# Altium footprint library XPSM82866AA0SRDJR.PcbLib: 2 footprints
Each footprint in its own frame and in the unit in brackets; x right, y up, seen from the top. Pads: shape width x height; smd on the part's side, far side on the other; paste and mask are expansions set on the pad; w line width, h text height; cw(c..) or ccw(c..) is an arc to the next point about the centre after c.
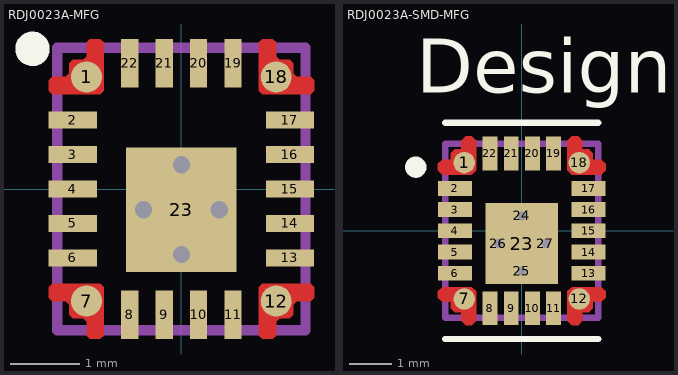
[diagram p0: the footprints below, top view; thin cyan lines are the x and y axes]

## RDJ0023A-MFG [mm]
pads (23):
  round 0.45 smd paste+0 mask+0: 1(-1.375,1.625) 7(-1.375,-1.625) 12(1.375,-1.625) 18(1.375,1.625)
  rect 0.7x0.25 smd paste+0 mask+0: 2(-1.575,1) 3(-1.575,0.5) 4(-1.575,0) 5(-1.575,-0.5) 6(-1.575,-1) 13(1.575,-1) 14(1.575,-0.5) 15(1.575,0) 16(1.575,0.5) 17(1.575,1)
  rect 0.25x0.7 smd paste+0 mask+0: 8(-0.75,-1.825) 9(-0.25,-1.825) 10(0.25,-1.825) 11(0.75,-1.825) 19(0.75,1.825) 20(0.25,1.825) 21(-0.25,1.825) 22(-0.75,1.825)
  rect 1.6x1.8 smd paste-0.887 mask+0: 23(0,-0.3)
via -0.549,-0.3 diameter 0.5 hole 0.25
via 0.551,-0.301 diameter 0.5 hole 0.25
via 0,-0.95 diameter 0.5 hole 0.25
via 0,0.35 diameter 0.5 hole 0.25
Top Layer:
  region: -1.925,1.425 -1.925,1.575 -1.875,1.625 -1.675,1.625 -1.625,1.675 -1.625,1.825 -1.575,1.875 -1.425,1.875 -1.375,1.925 -1.375,2.125 -1.325,2.175 -1.175,2.175 -1.125,2.125 -1.125,1.425 -1.175,1.375 -1.875,1.375
  region: -1.925,-1.425 -1.925,-1.575 -1.875,-1.625 -1.675,-1.625 -1.625,-1.675 -1.625,-1.825 -1.575,-1.875 -1.425,-1.875 -1.375,-1.925 -1.375,-2.125 -1.325,-2.175 -1.175,-2.175 -1.125,-2.125 -1.125,-1.425 -1.175,-1.375 -1.875,-1.375
  region: 1.925,-1.425 1.925,-1.575 1.875,-1.625 1.675,-1.625 1.625,-1.675 1.625,-1.825 1.575,-1.875 1.425,-1.875 1.375,-1.925 1.375,-2.125 1.325,-2.175 1.175,-2.175 1.125,-2.125 1.125,-1.425 1.175,-1.375 1.875,-1.375
  region: 1.925,1.425 1.925,1.575 1.875,1.625 1.675,1.625 1.625,1.675 1.625,1.825 1.575,1.875 1.425,1.875 1.375,1.925 1.375,2.125 1.325,2.175 1.175,2.175 1.125,2.125 1.125,1.425 1.175,1.375 1.875,1.375
Top Overlay:
  circle w0.25: c-2.159,2.032 r0.125
Top Paste:
  region: -1.925,1.425 -1.925,1.575 -1.875,1.625 -1.675,1.625 -1.625,1.675 -1.625,1.825 -1.575,1.875 -1.425,1.875 -1.375,1.925 -1.375,2.125 -1.325,2.175 -1.175,2.175 -1.125,2.125 -1.125,1.425 -1.175,1.375 -1.875,1.375
  region: -1.875,-1.625 -1.925,-1.575 -1.925,-1.425 -1.875,-1.375 -1.175,-1.375 -1.125,-1.425 -1.125,-2.125 -1.175,-2.175 -1.325,-2.175 -1.375,-2.125 -1.375,-1.925 -1.425,-1.875 -1.575,-1.875 -1.625,-1.825 -1.625,-1.675 -1.675,-1.625
  region: 1.925,-1.425 1.925,-1.575 1.875,-1.625 1.675,-1.625 1.625,-1.675 1.625,-1.825 1.575,-1.875 1.425,-1.875 1.375,-1.925 1.375,-2.125 1.325,-2.175 1.175,-2.175 1.125,-2.125 1.125,-1.425 1.175,-1.375 1.875,-1.375
  region: 1.875,1.625 1.925,1.575 1.925,1.425 1.875,1.375 1.175,1.375 1.125,1.425 1.125,2.125 1.175,2.175 1.325,2.175 1.375,2.125 1.375,1.925 1.425,1.875 1.575,1.875 1.625,1.825 1.625,1.675 1.675,1.625
  region: -0.735,0.465 -0.685,0.515 0.685,0.515 0.735,0.465 0.735,-1.065 0.685,-1.115 -0.685,-1.115 -0.735,-1.065
Top Solder:
  region: -1.925,1.425 -1.925,1.575 -1.875,1.625 -1.675,1.625 -1.625,1.675 -1.625,1.825 -1.575,1.875 -1.425,1.875 -1.375,1.925 -1.375,2.125 -1.325,2.175 -1.175,2.175 -1.125,2.125 -1.125,1.425 -1.175,1.375 -1.875,1.375
  region: -1.875,-1.625 -1.925,-1.575 -1.925,-1.425 -1.875,-1.375 -1.175,-1.375 -1.125,-1.425 -1.125,-2.125 -1.175,-2.175 -1.325,-2.175 -1.375,-2.125 -1.375,-1.925 -1.425,-1.875 -1.575,-1.875 -1.625,-1.825 -1.625,-1.675 -1.675,-1.625
  region: 1.925,-1.425 1.925,-1.575 1.875,-1.625 1.675,-1.625 1.625,-1.675 1.625,-1.825 1.575,-1.875 1.425,-1.875 1.375,-1.925 1.375,-2.125 1.325,-2.175 1.175,-2.175 1.125,-2.125 1.125,-1.425 1.175,-1.375 1.875,-1.375
  region: 1.875,1.625 1.925,1.575 1.925,1.425 1.875,1.375 1.175,1.375 1.125,1.425 1.125,2.125 1.175,2.175 1.325,2.175 1.375,2.125 1.375,1.925 1.425,1.875 1.575,1.875 1.625,1.825 1.625,1.675 1.675,1.625
Mechanical 13:
  lines w0.15: -1.8,-2.05 1.8,-2.05 1.8,2.05 -1.8,2.05 -1.8,-2.05
3D body "RDJ0023A.stp": height 1.45, standoff 0, extent -1.75,-2 1.75,2

## RDJ0023A-SMD-MFG [mm]
pads (27):
  round 0.506 smd paste-0.24 mask-0.241: 1(-1.356,1.606) 7(-1.356,-1.606) 12(1.356,-1.606) 18(1.356,1.606)
  rect 0.8x0.35 smd paste-0.387 mask-0.381: 2(-1.575,1) 3(-1.575,0.5) 4(-1.575,0) 5(-1.575,-0.5) 6(-1.575,-1) 13(1.575,-1) 14(1.575,-0.5) 15(1.575,0) 16(1.575,0.5) 17(1.575,1)
  rect 0.35x0.8 smd paste-0.387 mask-0.381: 8(-0.75,-1.825) 9(-0.25,-1.825) 10(0.25,-1.825) 11(0.75,-1.825) 19(0.75,1.825) 20(0.25,1.825) 21(-0.25,1.825) 22(-0.75,1.825)
  rect 1.7x1.9 smd paste-0.937 mask-0.94: 23(0,-0.3)
  round 0.5 / inner round 1.524 / far side round 0.5 hole 0.203 paste-2539.97 mask+0: 24(0,0.35) 25(0,-0.95) 26(-0.55,-0.3) 27(0.55,-0.3)
Top Layer:
  region: -1.975,1.425 -1.975,1.575 -1.875,1.675 -1.675,1.675 -1.675,1.825 -1.575,1.925 -1.425,1.925 -1.425,2.125 -1.325,2.225 -1.175,2.225 -1.075,2.125 -1.075,1.425 -1.175,1.325 -1.875,1.325
  region: -1.975,-1.425 -1.975,-1.575 -1.875,-1.675 -1.675,-1.675 -1.675,-1.825 -1.575,-1.925 -1.425,-1.925 -1.425,-2.125 -1.325,-2.225 -1.175,-2.225 -1.075,-2.125 -1.075,-1.425 -1.175,-1.325 -1.875,-1.325
  region: 1.975,-1.425 1.975,-1.575 1.875,-1.675 1.675,-1.675 1.675,-1.825 1.575,-1.925 1.425,-1.925 1.425,-2.125 1.325,-2.225 1.175,-2.225 1.075,-2.125 1.075,-1.425 1.175,-1.325 1.875,-1.325
  region: 1.975,1.425 1.975,1.575 1.875,1.675 1.675,1.675 1.675,1.825 1.575,1.925 1.425,1.925 1.425,2.125 1.325,2.225 1.175,2.225 1.075,2.125 1.075,1.425 1.175,1.325 1.875,1.325
Top Overlay:
  circle w0.25: c-2.5,1.5 r0.125
  lines w0.15: -1.8,-2.55 1.8,-2.55 ; -1.8,2.55 1.8,2.55
  text "Designator861" at -2.489,3.251 h1.27
Top Paste:
  drawing of 23 lines, arcs and shapes, not listed
Top Solder:
  drawing of 23 lines, arcs and shapes, not listed
Mechanical 13:
  lines w0.15: -1.8,-2.05 1.8,-2.05 1.8,2.05 -1.8,2.05 -1.8,-2.05